# Altium schematic symbol library Passive-Res.SchLib: 8 symbols
Pins are listed as number, name and electrical type; pins without a type are passive.

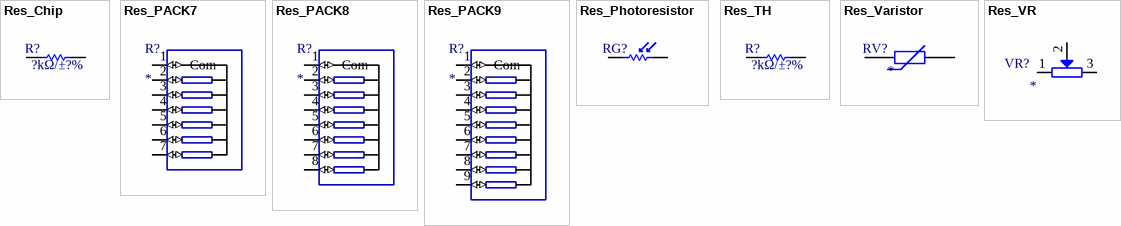
[diagram p0: symbols Res_Chip to Res_VR]

## Res_Chip
designator R?, comment ?kΩ/±?%
贴片电阻; Manufacturer_Name: UNI-ROYAL(厚声); Manufacturer_Part_Number: ±1%; Manufacturer_Name_1: YAGEO(国巨); Manufacturer_Part_Number_1: ±1%
footprint R_0402 (Chip Resistor, 2-Leads, Body 1.00x0.50mm, IPC Medium Density)
footprint R_0603 (Chip Resistor, 2-Leads, Body 1.60x0.80mm, IPC Medium Density)
footprint R_0805 (Chip Resistor, 2-Leads, Body 2.00x1.20mm, IPC Medium Density)
footprint R_1206 (Chip Resistor, 2-Leads, Body 3.05x1.55mm, IPC Medium Density)
footprint R_1210 (Chip Resistor, 2-Leads, Body 3.25x2.51mm, IPC Medium Density)
footprint R_2512
footprint R_0201
pins: 1, 2

## Res_PACK7
designator R?
排阻7
footprint A07R
pins: 1 Com (io), 2 (io), 3 (io), 4 (io), 5 (io), 6 (io), 7 (io)

## Res_PACK8
designator R?
排阻8
footprint A08R
pins: 1 Com (io), 2 (io), 3 (io), 4 (io), 5 (io), 6 (io), 7 (io), 8 (io)

## Res_PACK9
designator R?
排阻9
footprint A09R
pins: 1 Com (io), 2 (io), 3 (io), 4 (io), 5 (io), 6 (io), 7 (io), 8 (io), 9 (io)

## Res_Photoresistor
designator RG?
光敏电阻
footprint Photoresistor
pins: 1, 2

## Res_TH
designator R?, comment ?kΩ/±?%
插件电阻; Manufacturer_Name: *; Manufacturer_Part_Number: *
footprint AXIAL0.3
footprint AXIAL0.4 (1/4W/1/2W)
footprint AXIAL0.5 (1/2W/1W)
footprint AXIAL0.6 (Variable Resistor; 2 Leads)
footprint AXIAL0.7 (Variable Resistor; 2 Leads)
footprint AXIAL0.9 (Magnetic-Core Inductor; 2 Leads)
footprint AXIAL0.8 (Adjustable Inductor; 2 Leads)
footprint AXIAL1.0 (Adjustable Magnetic-Core Inductor; 2 Leads)
pins: 1, 2

## Res_Varistor
designator RV?
压敏电阻
footprint Varistor-7.5mm
pins: 1, 2

## Res_VR
designator VR?
可变电阻
footprint 3296W
footprint 3362P
footprint 3362S
footprint 微调卧式蓝白电位器
pins: 1, 2, 3